# Altium integrated library maxim.IntLib: 502 symbols (part 4 of 4)
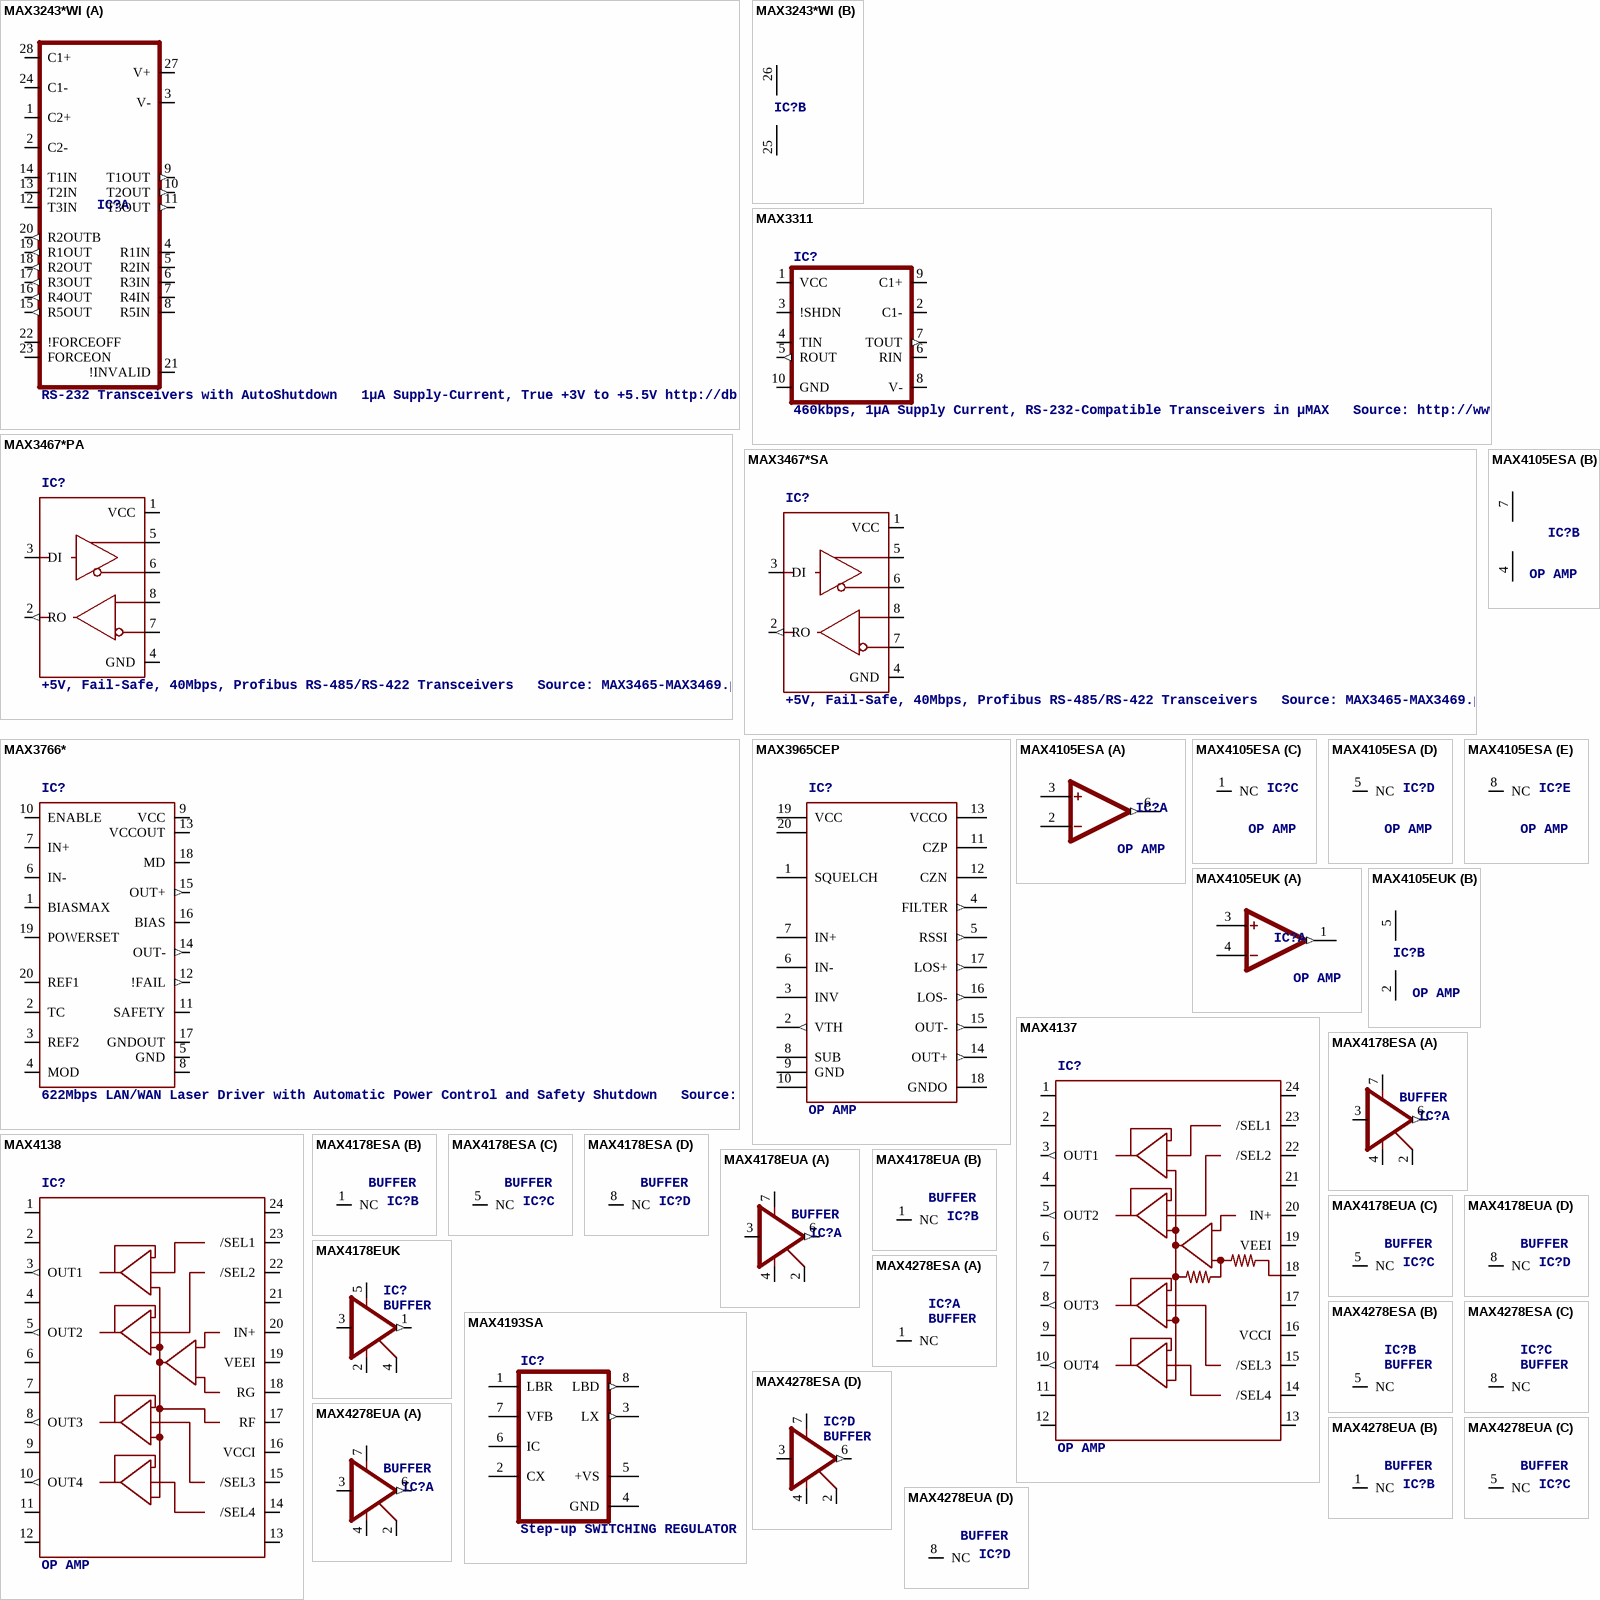
[diagram p33: symbols MAX3243*WI to MAX4278EUA]

## MAX4137
designator IC?, comment OP AMP
OC_FARNELL: unknown; OC_NEWARK: unknown
footprint SO24L
pins: 1 NC1, 2 VCCO@1 (power), 3 OUT1 (out), 4 GND@1 (power), 5 OUT2 (out), 6 VEEO@1 (power), 7 VEEO@2 (power), 8 OUT3 (out), 9 GND@2 (power), 10 OUT4 (out), 11 VCCO@2 (power), 12 NC12, 13 NC13, 14 /SEL4, 15 /SEL3, 16 VCCI (power), 17 NC17, 18 AGND@3 (power), 19 VEEI (power), 20 IN+, 21 AGND@4 (power), 22 /SEL2, 23 /SEL1, 24 NC24

## MAX4138
designator IC?, comment OP AMP
OC_FARNELL: unknown; OC_NEWARK: unknown
footprint SO24L
pins: 1 NC1, 2 VCCO@1 (power), 3 OUT1 (out), 4 AGND@1 (power), 5 OUT2 (out), 6 VEEO@1 (power), 7 VEEO@2 (power), 8 OUT3 (out), 9 AGND@2 (power), 10 OUT4 (out), 11 VCCO@2 (power), 12 NC12, 13 NC13, 14 /SEL4, 15 /SEL3, 16 VCCI (power), 17 RF, 18 RG, 19 VEEI (power), 20 IN+, 21 AGND@4 (power), 22 /SEL2, 23 /SEL1, 24 NC24

## MAX4178ESA
designator IC?, comment BUFFER
OC_FARNELL: unknown; OC_NEWARK: unknown
footprint SO08
part A pins: 2 GND (power), 3 IN, 4 VEE (power), 6 OUT (out), 7 VCC (power)
part B pins: 1 NC
part C pins: 5 NC
part D pins: 8 NC

## MAX4178EUA
designator IC?, comment BUFFER
OC_FARNELL: unknown; OC_NEWARK: unknown
footprint UMAX8
part A pins: 2 GND (power), 3 IN, 4 VEE (power), 6 OUT (out), 7 VCC (power)
part B pins: 1 NC
part C pins: 5 NC
part D pins: 8 NC

## MAX4178EUK
designator IC?, comment BUFFER
OC_FARNELL: unknown; OC_NEWARK: unknown
footprint SOT23-5L
pins: 1 OUT (out), 2 VEE (power), 3 IN, 4 GND (power), 5 VCC (power)

## MAX4193SA
designator IC?, comment Step-up SWITCHING REGULATOR
OC_FARNELL: unknown; OC_NEWARK: unknown
footprint SO08
pins: 1 LBR, 2 CX, 3 LX (out), 4 GND (power), 5 +VS (power), 6 IC, 7 VFB, 8 LBD (out)

## MAX4278ESA
designator IC?, comment BUFFER
OC_FARNELL: 1422322; OC_NEWARK: unknown
footprint SO08
part A pins: 1 NC
part B pins: 5 NC
part C pins: 8 NC
part D pins: 2 GND (power), 3 IN, 4 VEE (power), 6 OUT (out), 7 VCC (power)

## MAX4278EUA
designator IC?, comment BUFFER
OC_FARNELL: unknown; OC_NEWARK: unknown
footprint UMAX8
part A pins: 2 GND (power), 3 IN, 4 VEE (power), 6 OUT (out), 7 VCC (power)
part B pins: 1 NC
part C pins: 5 NC
part D pins: 8 NC

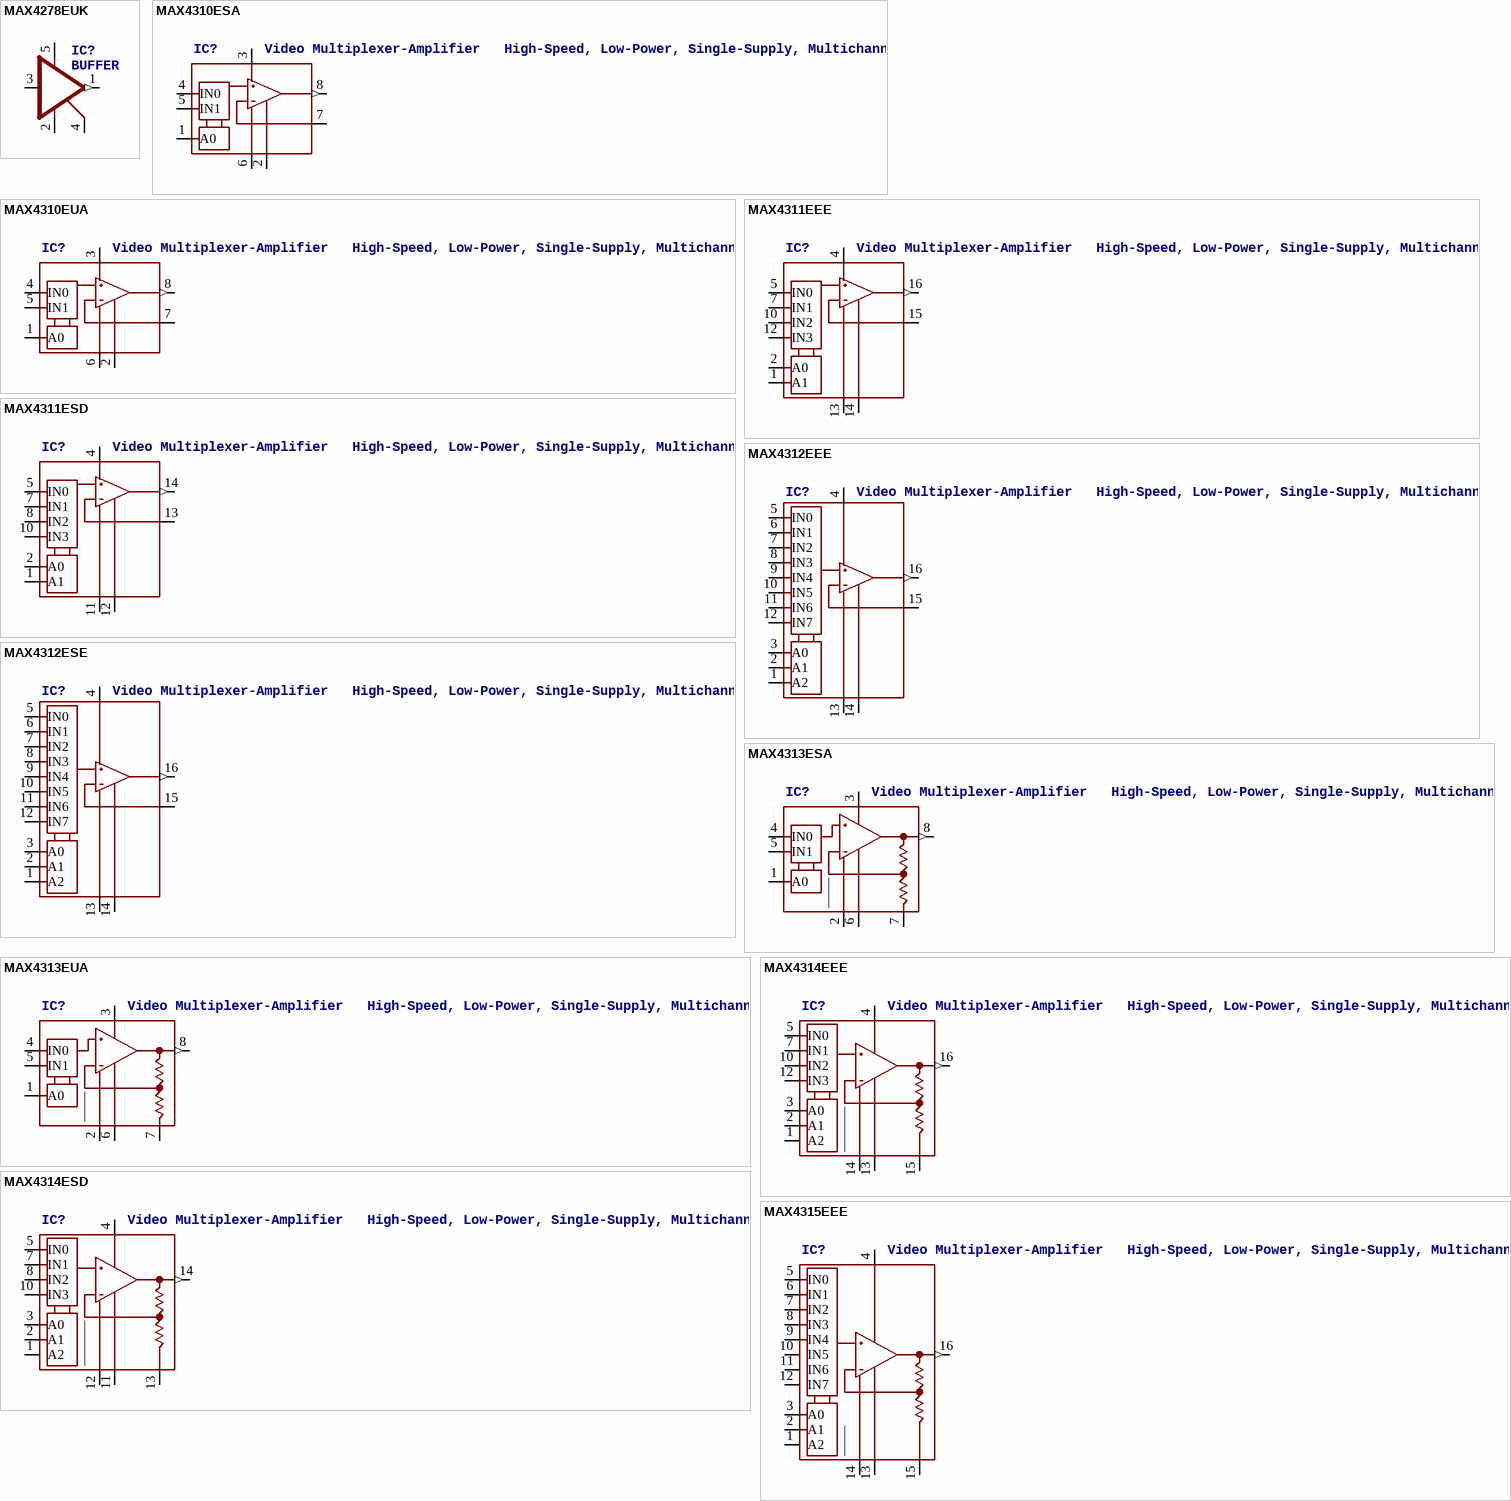
[diagram p26: symbols MAX4278EUK to MAX4315EEE]

## MAX4278EUK
designator IC?, comment BUFFER
OC_FARNELL: unknown; OC_NEWARK: unknown
footprint SOT23-5L
pins: 1 OUT (out), 2 VEE (power), 3 IN, 4 GND (power), 5 VCC (power)

## MAX4310ESA
designator IC?, comment Video Multiplexer-Amplifier   High-Speed, Low-Power, Single-Supply, Multichannel
OC_FARNELL: unknown; OC_NEWARK: unknown
footprint UMAX8
pins: 1 A0, 2 !SHDN, 3 V+ (power), 4 IN0, 5 IN1, 6 V- (power), 7 FB (power), 8 OUT (out)

## MAX4310EUA
designator IC?, comment Video Multiplexer-Amplifier   High-Speed, Low-Power, Single-Supply, Multichannel
OC_FARNELL: unknown; OC_NEWARK: unknown
footprint SO08
pins: 1 A0, 2 !SHDN, 3 V+ (power), 4 IN0, 5 IN1, 6 V- (power), 7 FB (power), 8 OUT (out)

## MAX4311EEE
designator IC?, comment Video Multiplexer-Amplifier   High-Speed, Low-Power, Single-Supply, Multichannel
MPN: MAX4311EEE+; MF: MAXIM; OC_FARNELL: unknown; OC_NEWARK: 65J5493
footprint QSOP16
pins: 1 A1, 2 A0, 4 V+ (power), 5 IN0, 7 IN1, 10 IN2, 12 IN3, 13 V- (power), 14 !SHDN, 15 FB (power), 16 OUT (out)

## MAX4311ESD
designator IC?, comment Video Multiplexer-Amplifier   High-Speed, Low-Power, Single-Supply, Multichannel
MPN: MAX4311ESD+; MF: MAXIM; OC_FARNELL: unknown; OC_NEWARK: 37K7965
footprint SO14
pins: 1 A1, 2 A0, 4 V+ (power), 5 IN0, 7 IN1, 8 IN2, 10 IN3, 11 V- (power), 12 !SHDN, 13 FB (power), 14 OUT (out)

## MAX4312EEE
designator IC?, comment Video Multiplexer-Amplifier   High-Speed, Low-Power, Single-Supply, Multichannel
MPN: MAX4312EEE+; MF: MAXIM; OC_FARNELL: unknown; OC_NEWARK: 33K2071
footprint QSOP16
pins: 1 A2, 2 A1, 3 A0, 4 V+ (power), 5 IN0, 6 IN1, 7 IN2, 8 IN3, 9 IN4, 10 IN5, 11 IN6, 12 IN7, 13 V- (power), 14 !SHDN, 15 FB (power), 16 OUT (out)

## MAX4312ESE
designator IC?, comment Video Multiplexer-Amplifier   High-Speed, Low-Power, Single-Supply, Multichannel
MPN: MAX4312ESE+; OC_FARNELL: unknown; OC_NEWARK: 53K6837
footprint SO16
pins: 1 A2, 2 A1, 3 A0, 4 V+ (power), 5 IN0, 6 IN1, 7 IN2, 8 IN3, 9 IN4, 10 IN5, 11 IN6, 12 IN7, 13 V- (power), 14 !SHDN, 15 FB (power), 16 OUT (out)

## MAX4313ESA
designator IC?, comment Video Multiplexer-Amplifier   High-Speed, Low-Power, Single-Supply, Multichannel
MPN: MAX4313ESA+; MF: MAXIM; OC_FARNELL: unknown; OC_NEWARK: 59J3144
footprint SO08
pins: 1 A0, 2 !SHDN, 3 V+ (power), 4 IN0, 5 IN1, 6 V- (power), 7 GND (power), 8 OUT (out)

## MAX4313EUA
designator IC?, comment Video Multiplexer-Amplifier   High-Speed, Low-Power, Single-Supply, Multichannel
OC_FARNELL: unknown; OC_NEWARK: unknown
footprint UMAX8
pins: 1 A0, 2 !SHDN, 3 V+ (power), 4 IN0, 5 IN1, 6 V- (power), 7 GND (power), 8 OUT (out)

## MAX4314EEE
designator IC?, comment Video Multiplexer-Amplifier   High-Speed, Low-Power, Single-Supply, Multichannel
MPN: MAX4314EEE+; OC_FARNELL: unknown; OC_NEWARK: 57K8865
footprint QSOP16
pins: 1 A2, 2 A1, 3 A0, 4 V+ (power), 5 IN0, 7 IN1, 10 IN2, 12 IN3, 13 V- (power), 14 !SHDN, 15 GND (power), 16 OUT (out)

## MAX4314ESD
designator IC?, comment Video Multiplexer-Amplifier   High-Speed, Low-Power, Single-Supply, Multichannel
MPN: MAX4314ESD+; MF: MAXIM; OC_FARNELL: unknown; OC_NEWARK: 61K0443
footprint SO14
pins: 1 A2, 2 A1, 3 A0, 4 V+ (power), 5 IN0, 7 IN1, 8 IN2, 10 IN3, 11 V- (power), 12 !SHDN, 13 GND (power), 14 OUT (out)

## MAX4315EEE
designator IC?, comment Video Multiplexer-Amplifier   High-Speed, Low-Power, Single-Supply, Multichannel
MPN: MAX4315EEE+; OC_FARNELL: unknown; OC_NEWARK: 61K0445
footprint QSOP16
pins: 1 A2, 2 A1, 3 A0, 4 V+ (power), 5 IN0, 6 IN1, 7 IN2, 8 IN3, 9 IN4, 10 IN5, 11 IN6, 12 IN7, 13 V- (power), 14 !SHDN, 15 GND (power), 16 OUT (out)

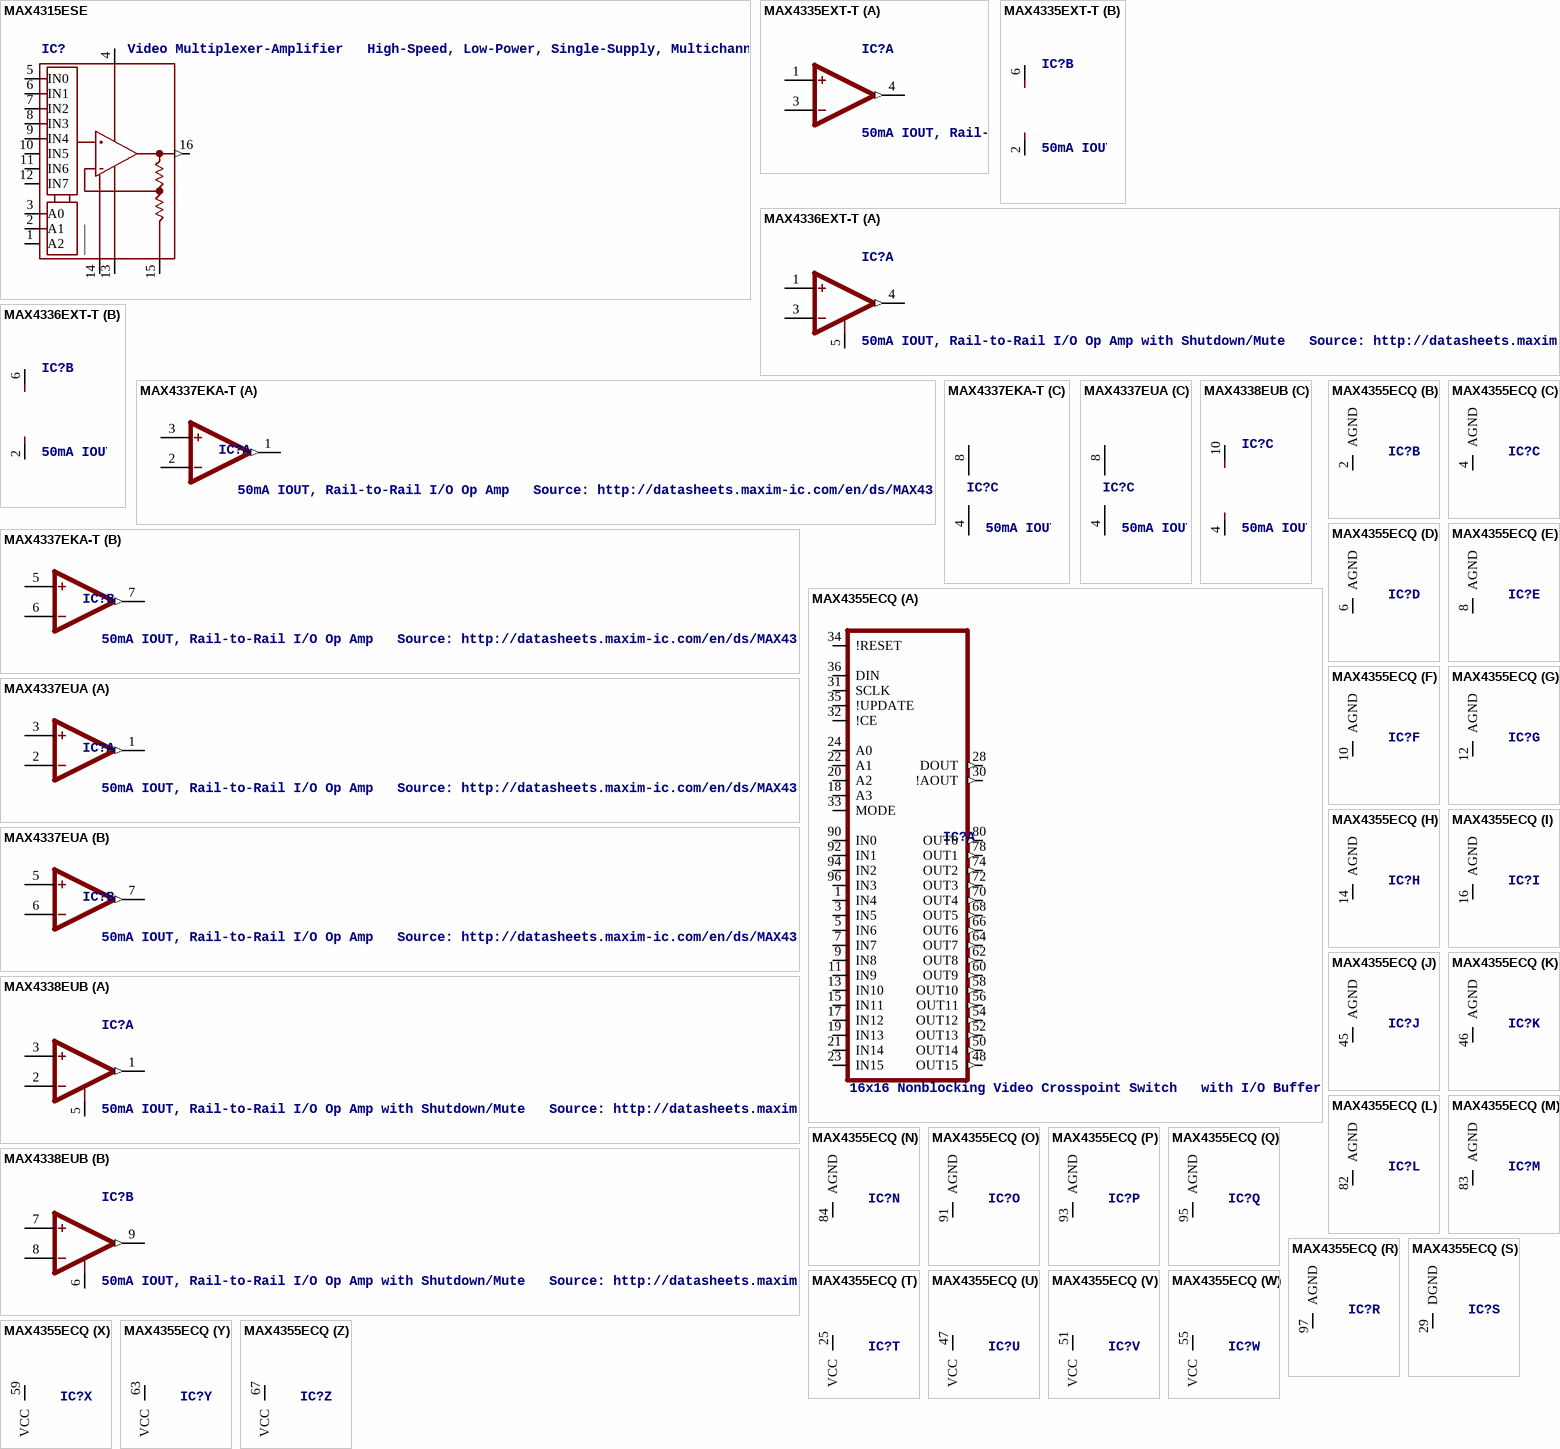
[diagram p27: symbols MAX4315ESE to MAX4355ECQ]

## MAX4315ESE
designator IC?, comment Video Multiplexer-Amplifier   High-Speed, Low-Power, Single-Supply, Multichannel
MPN: MAX4315ESE+; MF: MAXIM; OC_FARNELL: unknown; OC_NEWARK: 37K7967
footprint SO16
pins: 1 A2, 2 A1, 3 A0, 4 V+ (power), 5 IN0, 6 IN1, 7 IN2, 8 IN3, 9 IN4, 10 IN5, 11 IN6, 12 IN7, 13 V- (power), 14 !SHDN, 15 GND (power), 16 OUT (out)

## MAX4335EXT-T
designator IC?, comment 50mA IOUT, Rail-to-Rail I/O Op Amp   Source: http://datasheets.maxim-ic.com/en/ds/MAX4335-MAX4338.pdf
OC_FARNELL: unknown; OC_NEWARK: unknown
footprint SOT23-6L
part A pins: 1 +IN, 3 -IN, 4 OUT (out)
part B pins: 2 V- (power), 6 V+ (power)

## MAX4336EXT-T
designator IC?, comment 50mA IOUT, Rail-to-Rail I/O Op Amp with Shutdown/Mute   Source: http://datasheets.maxim-ic.com/en/ds/MAX4335-MAX4338.pdf
MPN: MAX4336EXT+T; OC_FARNELL: unknown; OC_NEWARK: 27M4090
footprint SOT23-6L
part A pins: 1 +IN, 3 -IN, 4 OUT (out), 5 SHUTDOWN
part B pins: 2 V- (power), 6 V+ (power)

## MAX4337EKA-T
designator IC?, comment 50mA IOUT, Rail-to-Rail I/O Op Amp   Source: http://datasheets.maxim-ic.com/en/ds/MAX4335-MAX4338.pdf
MPN: MAX4337EKA+T; OC_FARNELL: unknown; OC_NEWARK: 57K8868
footprint SOT23-8L
part A pins: 1 OUT (out), 2 -IN, 3 +IN
part B pins: 5 +IN, 6 -IN, 7 OUT (out)
part C pins: 4 V- (power), 8 V+ (power)

## MAX4337EUA
designator IC?, comment 50mA IOUT, Rail-to-Rail I/O Op Amp   Source: http://datasheets.maxim-ic.com/en/ds/MAX4335-MAX4338.pdf
OC_FARNELL: unknown; OC_NEWARK: unknown
footprint UMAX8
part A pins: 1 OUT (out), 2 -IN, 3 +IN
part B pins: 5 +IN, 6 -IN, 7 OUT (out)
part C pins: 4 V- (power), 8 V+ (power)

## MAX4338EUB
designator IC?, comment 50mA IOUT, Rail-to-Rail I/O Op Amp with Shutdown/Mute   Source: http://datasheets.maxim-ic.com/en/ds/MAX4335-MAX4338.pdf
OC_FARNELL: unknown; OC_NEWARK: unknown
footprint UMAX10
part A pins: 1 OUT (out), 2 -IN, 3 +IN, 5 SHUTDOWN
part B pins: 6 SHUTDOWN, 7 +IN, 8 -IN, 9 OUT (out)
part C pins: 4 V- (power), 10 V+ (power)

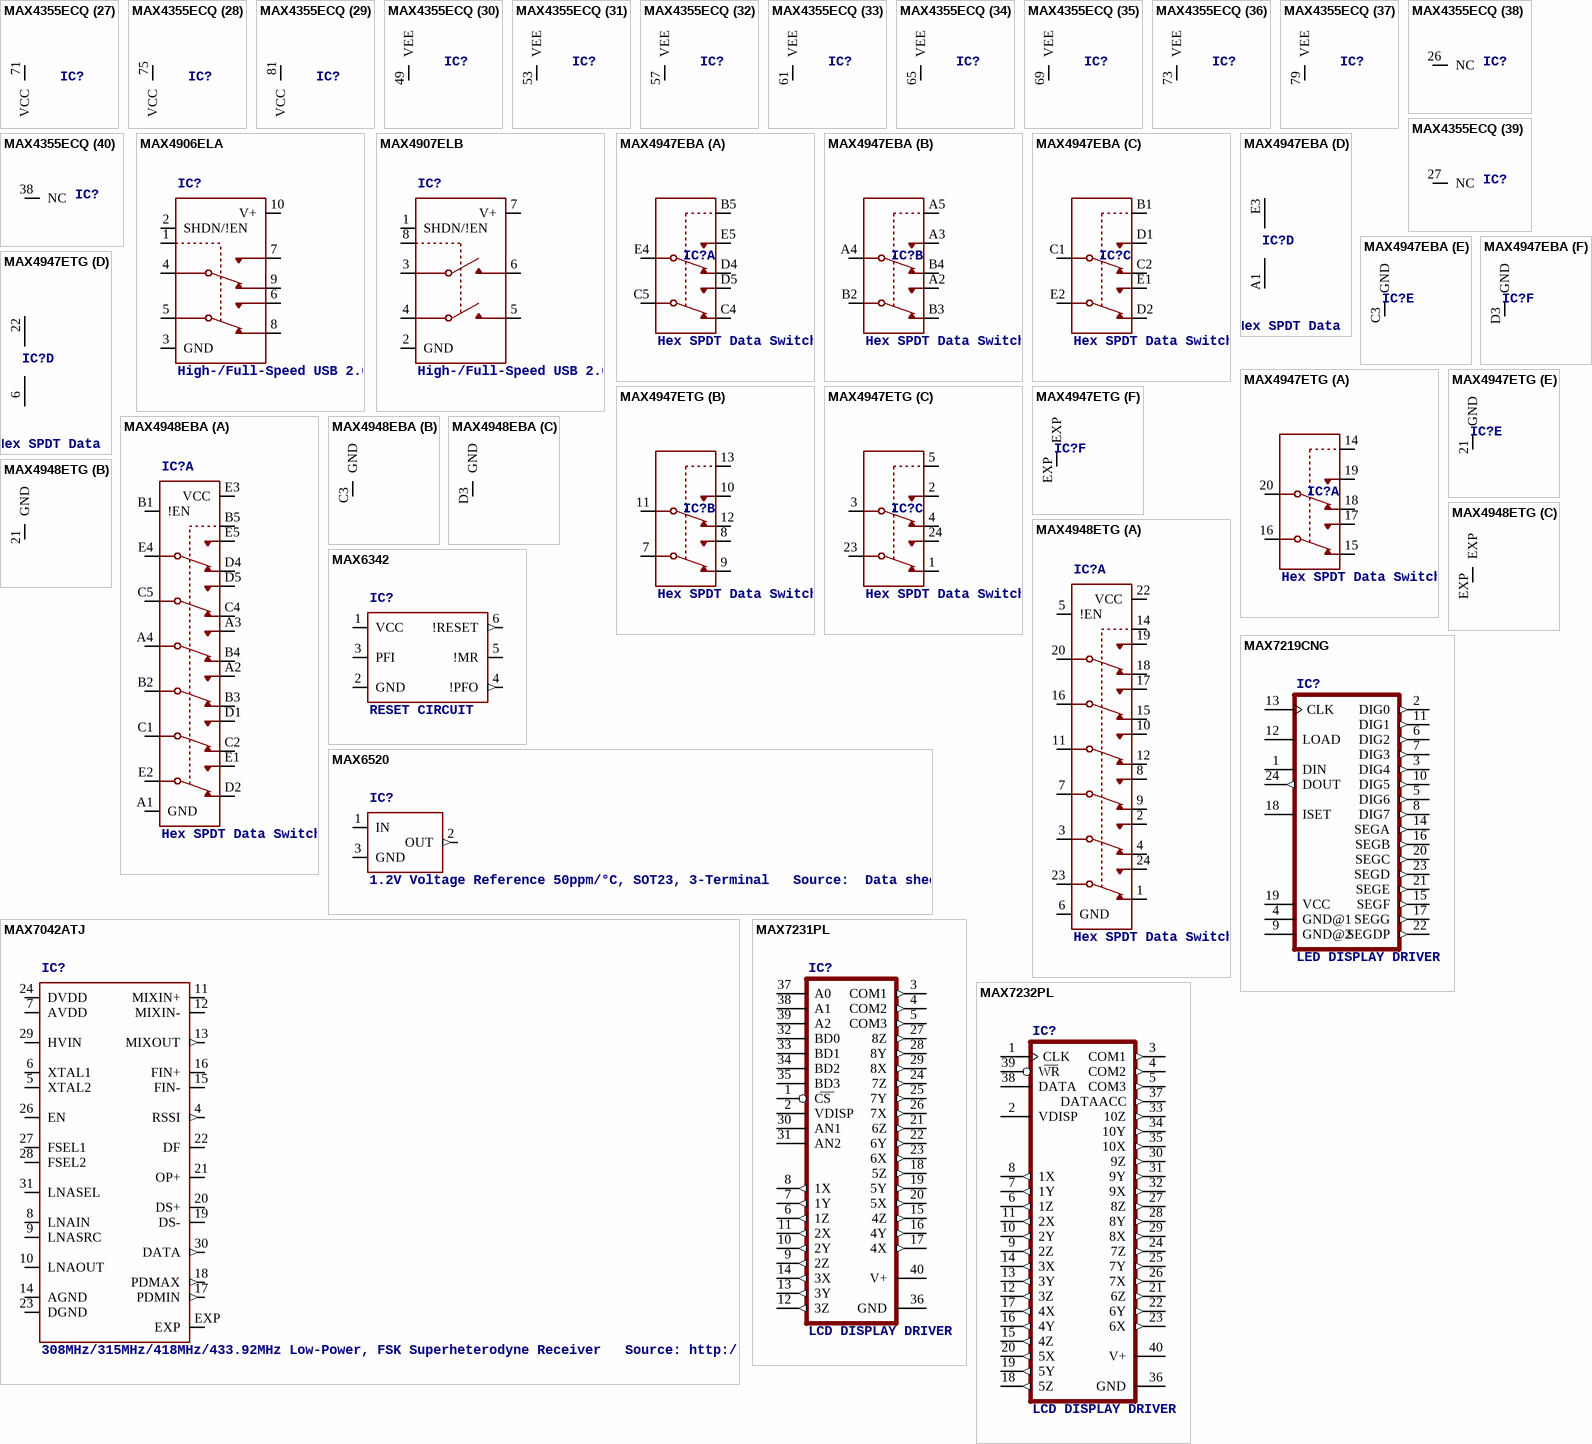
[diagram p28: symbols MAX4355ECQ to MAX7232PL]

## MAX4355ECQ
designator IC?, comment 16x16 Nonblocking Video Crosspoint Switch   with I/O Buffers
OC_FARNELL: unknown; OC_NEWARK: unknown
footprint TQFP100
part A pins: 1 IN4, 3 IN5, 5 IN6, 7 IN7, 9 IN8, 11 IN9, 13 IN10, 15 IN11, 17 IN12, 18 A3, 19 IN13, 20 A2, 21 IN14, 22 A1, 23 IN15, 24 A0, 28 DOUT (out), 30 !AOUT (out), 31 SCLK, 32 !CE, 33 MODE, 34 !RESET, 35 !UPDATE, 36 DIN, 48 OUT15 (out), 50 OUT14 (out), 52 OUT13 (out), 54 OUT12 (out), 56 OUT11 (out), 58 OUT10 (out), 60 OUT9 (out), 62 OUT8 (out), 64 OUT7 (out), 66 OUT6 (out), 68 OUT5 (out), 70 OUT4 (out), 72 OUT3 (out), 74 OUT2 (out), 78 OUT1 (out), 80 OUT0 (out), 90 IN0, 92 IN1, 94 IN2, 96 IN3
part B pins: 2 AGND (power)
part C pins: 4 AGND (power)
part D pins: 6 AGND (power)
part E pins: 8 AGND (power)
part F pins: 10 AGND (power)
part G pins: 12 AGND (power)
part H pins: 14 AGND (power)
part I pins: 16 AGND (power)
part J pins: 45 AGND (power)
part K pins: 46 AGND (power)
part L pins: 82 AGND (power)
part M pins: 83 AGND (power)
part N pins: 84 AGND (power)
part O pins: 91 AGND (power)
part P pins: 93 AGND (power)
part Q pins: 95 AGND (power)
part R pins: 97 AGND (power)
part S pins: 29 DGND (power)
part T pins: 25 VCC (power)
part U pins: 47 VCC (power)
part V pins: 51 VCC (power)
part W pins: 55 VCC (power)
part X pins: 59 VCC (power)
part Y pins: 63 VCC (power)
part Z pins: 67 VCC (power)
part 27 pins: 71 VCC (power)
part 28 pins: 75 VCC (power)
part 29 pins: 81 VCC (power)
part 30 pins: 49 VEE (power)
part 31 pins: 53 VEE (power)
part 32 pins: 57 VEE (power)
part 33 pins: 61 VEE (power)
part 34 pins: 65 VEE (power)
part 35 pins: 69 VEE (power)
part 36 pins: 73 VEE (power)
part 37 pins: 79 VEE (power)
part 38 pins: 26 NC
part 39 pins: 27 NC
part 40 pins: 38 NC
part 41 pins: 39 NC
part 42 pins: 40 NC
part 43 pins: 41 NC
part 44 pins: 42 NC
part 45 pins: 43 NC
part 46 pins: 44 NC
part 47 pins: 76 NC
part 48 pins: 77 NC
part 49 pins: 85 NC
part 50 pins: 86 NC
part 51 pins: 87 NC
part 52 pins: 88 NC
part 53 pins: 89 NC
part 54 pins: 99 NC
part 55 pins: 100 NC
part 56 pins: 98 VEE (power)
part 57 pins: 37 VDD (power)

## MAX4906ELA
designator IC?, comment High-/Full-Speed USB 2.0 Switches   Source: http://datasheets.maxim-ic.com/en/ds/MAX4906-MAX4907F.pdf
OC_FARNELL: unknown; OC_NEWARK: unknown
footprint UDFN10
pins: 1 IN, 2 SHDN/!EN, 3 GND (power), 4 COM1, 5 COM2, 6 NO2, 7 NO1, 8 NC2, 9 NC1, 10 V+

## MAX4907ELB
designator IC?, comment High-/Full-Speed USB 2.0 Switches   Source: http://datasheets.maxim-ic.com/en/ds/MAX4906-MAX4907F.pdf
OC_FARNELL: unknown; OC_NEWARK: unknown
footprint UDFN8
pins: 1 SHDN/!EN, 2 GND (power), 3 COM1, 4 COM2, 5 NO2, 6 NO1, 7 V+, 8 IN

## MAX4947EBA
designator IC?, comment Hex SPDT Data Switch   Source: http://datasheets.maxim-ic.com/en/ds/MAX4947-MAX4948.pdf
MPN: MAX4947EBA+T; OC_FARNELL: unknown; OC_NEWARK: 19M9695
footprint UCSP25
part A pins: B5 CB, C4 NC2, C5 COM2, D4 NC1, D5 NO2, E4 COM1, E5 NO1
part B pins: A2 NO2, A3 NO1, A4 COM1, A5 CB, B2 COM2, B3 NC2, B4 NC1
part C pins: B1 CB, C1 COM1, C2 NC1, D1 NO1, D2 NC2, E1 NO2, E2 COM2
part D pins: A1 GND (power), E3 VCC (power)
part E pins: C3 GND (power)
part F pins: D3 GND (power)

## MAX4947ETG
designator IC?, comment Hex SPDT Data Switch   Source: http://datasheets.maxim-ic.com/en/ds/MAX4947-MAX4948.pdf
MPN: MAX4947ETG+; OC_FARNELL: unknown; OC_NEWARK: 19M9696
footprint TQFN24-EP
part A pins: 14 CB, 15 NC2, 16 COM2, 17 NO2, 18 NC1, 19 NO1, 20 COM1
part B pins: 7 COM2, 8 NO2, 9 NC2, 10 NO1, 11 COM1, 12 NC1, 13 CB
part C pins: 1 NC2, 2 NO1, 3 COM1, 4 NC1, 5 CB, 23 COM2, 24 NO2
part D pins: 6 GND (power), 22 VCC (power)
part E pins: 21 GND (power)
part F pins: EXP

## MAX4948EBA
designator IC?, comment Hex SPDT Data Switch   Source: http://datasheets.maxim-ic.com/en/ds/MAX4947-MAX4948.pdf
MPN: MAX4948EBA+T; OC_FARNELL: unknown; OC_NEWARK: 42M5623
footprint UCSP25
part A pins: A1 GND (power), A2 NO4, A3 NO3, A4 COM3, B1 !EN, B2 COM4, B3 NC4, B4 NC3, B5 CB, C1 COM5, C2 NC5, C4 NC2, C5 COM2, D1 NO5, D2 NC6, D4 NC1, D5 NO2, E1 NO6, E2 COM6, E3 VCC (power), E4 COM1, E5 NO1
part B pins: C3 GND (power)
part C pins: D3 GND (power)

## MAX4948ETG
designator IC?, comment Hex SPDT Data Switch   Source: http://datasheets.maxim-ic.com/en/ds/MAX4947-MAX4948.pdf
MPN: MAX4948ETG+; OC_FARNELL: unknown; OC_NEWARK: 42M5624
footprint TQFN24-EP
part A pins: 1 NC6, 2 NO5, 3 COM5, 4 NC5, 5 !EN, 6 GND (power), 7 COM4, 8 NO4, 9 NC4, 10 NO3, 11 COM3, 12 NC3, 14 CB, 15 NC2, 16 COM2, 17 NO2, 18 NC1, 19 NO1, 20 COM1, 22 VCC (power), 23 COM6, 24 NO6
part B pins: 21 GND (power)
part C pins: EXP

## MAX6342
designator IC?, comment RESET CIRCUIT
OC_FARNELL: unknown; OC_NEWARK: unknown
footprint SOT23-6L
pins: 1 VCC (power), 2 GND (power), 3 PFI, 4 !PFO (out), 5 !MR, 6 !RESET (out)

## MAX6520
designator IC?, comment 1.2V Voltage Reference 50ppm/°C, SOT23, 3-Terminal   Source:  Data sheet
MPN: MAX6520EUR-T; MF: MAXIM; OC_FARNELL: unknown; OC_NEWARK: 02J4586
footprint SOT23
pins: 1 IN, 2 OUT (out), 3 GND (power)

## MAX7042ATJ
designator IC?, comment 308MHz/315MHz/418MHz/433.92MHz Low-Power, FSK Superheterodyne Receiver   Source: http://datasheets.maxim-ic.com/en/ds/MAX7042.pdf
MPN: MAX7042ATJ+; MF: MAXIM; OC_FARNELL: unknown; OC_NEWARK: 43K3864
footprint QFN32
pins: 4 RSSI (out), 5 XTAL2, 6 XTAL1, 7 AVDD (power), 8 LNAIN, 9 LNASRC, 10 LNAOUT, 11 MIXIN+, 12 MIXIN-, 13 MIXOUT (out), 14 AGND (power), 15 FIN-, 16 FIN+, 17 PDMIN (out), 18 PDMAX (out), 19 DS-, 20 DS+, 21 OP+, 22 DF, 23 DGND (power), 24 DVDD (power), 26 EN, 27 FSEL1, 28 FSEL2, 29 HVIN, 30 DATA (out), 31 LNASEL, EXP

## MAX7219CNG
designator IC?, comment LED DISPLAY DRIVER
MPN: MAX7219CNG; MF: MAXIM; OC_FARNELL: 1523914; OC_NEWARK: 34C4018
footprint DIL24-3
pins: 1 DIN, 2 DIG0 (out), 3 DIG4 (out), 4 GND@1 (power), 5 DIG6 (out), 6 DIG2 (out), 7 DIG3 (out), 8 DIG7 (out), 9 GND@2 (power), 10 DIG5 (out), 11 DIG1 (out), 12 LOAD, 13 CLK, 14 SEGA (out), 15 SEGF (out), 16 SEGB (out), 17 SEGG (out), 18 ISET, 19 VCC (power), 20 SEGC (out), 21 SEGE (out), 22 SEGDP (out), 23 SEGD (out), 24 DOUT (out)

## MAX7231PL
designator IC?, comment LCD DISPLAY DRIVER
OC_FARNELL: unknown; OC_NEWARK: unknown
footprint DIL40
pins: 1 CS, 2 VDISP, 3 COM1 (out), 4 COM2 (out), 5 COM3 (out), 6 1Z (out), 7 1Y (out), 8 1X (out), 9 2Z (out), 10 2Y (out), 11 2X (out), 12 3Z (out), 13 3Y (out), 14 3X (out), 15 4Z (out), 16 4Y (out), 17 4X (out), 18 5Z (out), 19 5Y (out), 20 5X (out), 21 6Z (out), 22 6Y (out), 23 6X (out), 24 7Z (out), 25 7Y (out), 26 7X (out), 27 8Z (out), 28 8Y (out), 29 8X (out), 30 AN1, 31 AN2, 32 BD0, 33 BD1, 34 BD2, 35 BD3, 36 GND (power), 37 A0, 38 A1, 39 A2, 40 V+ (power)

## MAX7232PL
designator IC?, comment LCD DISPLAY DRIVER
OC_FARNELL: unknown; OC_NEWARK: unknown
footprint DIL40
pins: 1 CLK, 2 VDISP, 3 COM1 (out), 4 COM2 (out), 5 COM3 (out), 6 1Z (out), 7 1Y (out), 8 1X (out), 9 2Z (out), 10 2Y (out), 11 2X (out), 12 3Z (out), 13 3Y (out), 14 3X (out), 15 4Z (out), 16 4Y (out), 17 4X (out), 18 5Z (out), 19 5Y (out), 20 5X (out), 21 6Z (out), 22 6Y (out), 23 6X (out), 24 7Z (out), 25 7Y (out), 26 7X (out), 27 8Z (out), 28 8Y (out), 29 8X (out), 30 9Z (out), 31 9Y (out), 32 9X (out), 33 10Z (out), 34 10Y (out), 35 10X (out), 36 GND (power), 37 DATAACC (out), 38 DATA, 39 WR, 40 V+ (power)

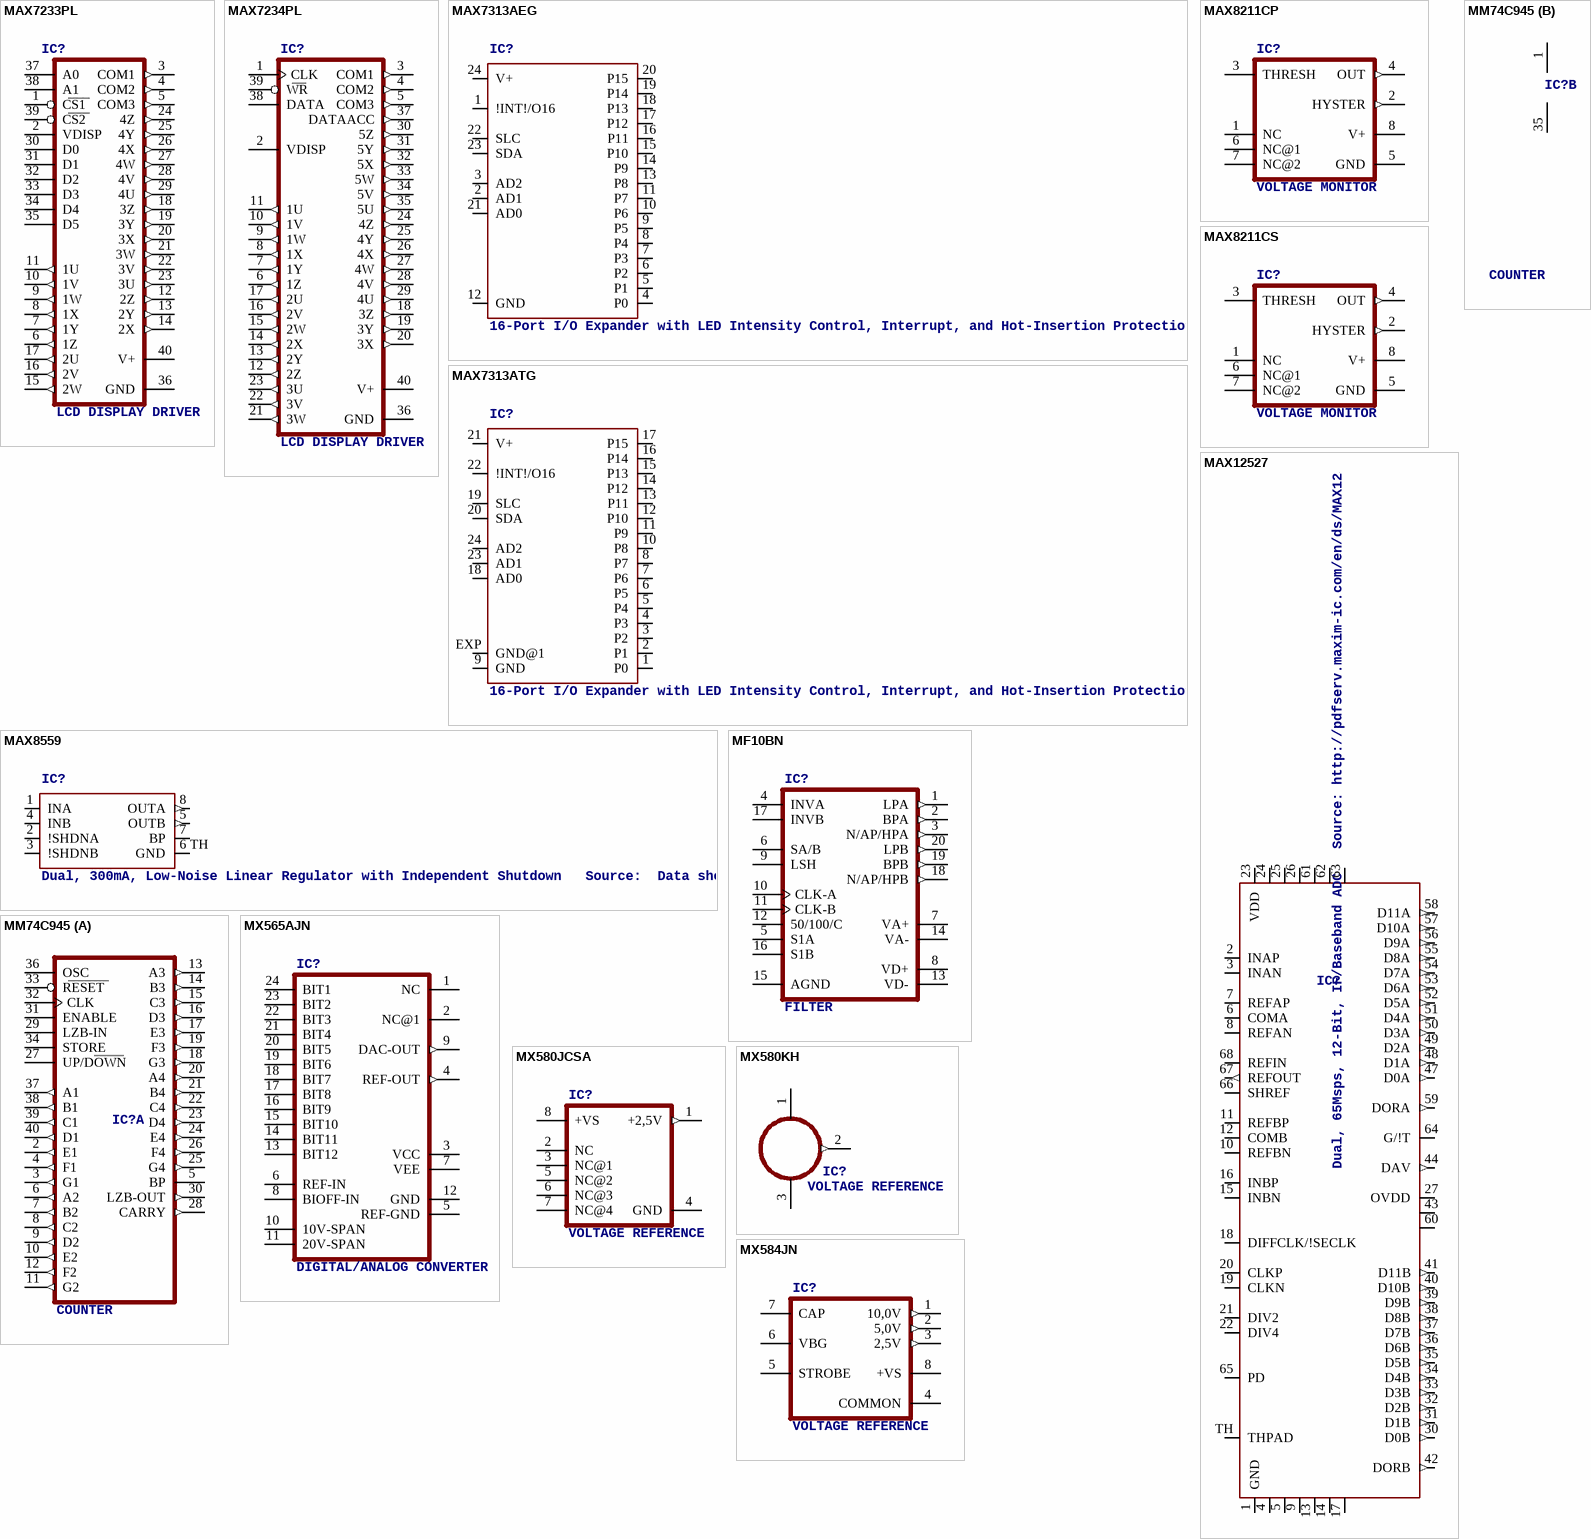
[diagram p29: symbols MAX7233PL to MX584JN]

## MAX7233PL
designator IC?, comment LCD DISPLAY DRIVER
OC_FARNELL: unknown; OC_NEWARK: unknown
footprint DIL40
pins: 1 CS1, 2 VDISP, 3 COM1 (out), 4 COM2 (out), 5 COM3 (out), 6 1Z (out), 7 1Y (out), 8 1X (out), 9 1W (out), 10 1V (out), 11 1U (out), 12 2Z (out), 13 2Y (out), 14 2X (out), 15 2W (out), 16 2V (out), 17 2U (out), 18 3Z (out), 19 3Y (out), 20 3X (out), 21 3W (out), 22 3V (out), 23 3U (out), 24 4Z (out), 25 4Y (out), 26 4X (out), 27 4W (out), 28 4V (out), 29 4U (out), 30 D0, 31 D1, 32 D2, 33 D3, 34 D4, 35 D5, 36 GND (power), 37 A0, 38 A1, 39 CS2, 40 V+ (power)

## MAX7234PL
designator IC?, comment LCD DISPLAY DRIVER
OC_FARNELL: unknown; OC_NEWARK: unknown
footprint DIL40
pins: 1 CLK, 2 VDISP, 3 COM1 (out), 4 COM2 (out), 5 COM3 (out), 6 1Z (out), 7 1Y (out), 8 1X (out), 9 1W (out), 10 1V (out), 11 1U (out), 12 2Z (out), 13 2Y (out), 14 2X (out), 15 2W (out), 16 2V (out), 17 2U (out), 18 3Z (out), 19 3Y (out), 20 3X (out), 21 3W (out), 22 3V (out), 23 3U (out), 24 4Z (out), 25 4Y (out), 26 4X (out), 27 4W (out), 28 4V (out), 29 4U (out), 30 5Z (out), 31 5Y (out), 32 5X (out), 33 5W (out), 34 5V (out), 35 5U (out), 36 GND (power), 37 DATAACC (out), 38 DATA, 39 WR, 40 V+ (power)

## MAX7313AEG
designator IC?, comment 16-Port I/O Expander with LED Intensity Control, Interrupt, and Hot-Insertion ProtectionSource: http://datasheets.maxim-ic.com/en/ds/MAX7313.pdf
MPN: MAX7313AEG+; OC_FARNELL: unknown; OC_NEWARK: 53K7268
footprint QSOP24
pins: 1 !INT!/O16 (oc), 2 AD1, 3 AD2, 4 P0, 5 P1, 6 P2, 7 P3, 8 P4, 9 P5, 10 P6, 11 P7, 12 GND (power), 13 P8, 14 P9, 15 P10, 16 P11, 17 P12, 18 P13, 19 P14, 20 P15, 21 AD0, 22 SLC, 23 SDA, 24 V+ (power)

## MAX7313ATG
designator IC?, comment 16-Port I/O Expander with LED Intensity Control, Interrupt, and Hot-Insertion ProtectionSource: http://datasheets.maxim-ic.com/en/ds/MAX7313.pdf
MPN: MAX7313ATG; MF: MAXIM; OC_FARNELL: unknown; OC_NEWARK: 87H1899
footprint TQFN24-EP
pins: 1 P0, 2 P1, 3 P2, 4 P3, 5 P4, 6 P5, 7 P6, 8 P7, 9 GND (power), 10 P8, 11 P9, 12 P10, 13 P11, 14 P12, 15 P13, 16 P14, 17 P15, 18 AD0, 19 SLC, 20 SDA, 21 V+ (power), 22 !INT!/O16 (oc), 23 AD1, 24 AD2, EXP GND@1 (power)

## MAX8211CP
designator IC?, comment VOLTAGE MONITOR
MPN: MAX8211CPA+; MF: MAXIM; OC_FARNELL: 1187924; OC_NEWARK: 68K5030
footprint DIL08
pins: 1 NC, 2 HYSTER (out), 3 THRESH, 4 OUT (out), 5 GND (power), 6 NC@1, 7 NC@2, 8 V+ (power)

## MAX8211CS
designator IC?, comment VOLTAGE MONITOR
MPN: MAX8211CSA+; MF: MAXIM; OC_FARNELL: 9725911; OC_NEWARK: 68K5031
footprint SO08
pins: 1 NC, 2 HYSTER (out), 3 THRESH, 4 OUT (out), 5 GND (power), 6 NC@1, 7 NC@2, 8 V+ (power)

## MAX8559
designator IC?, comment Dual, 300mA, Low-Noise Linear Regulator with Independent Shutdown   Source:  Data sheet
footprint TDFN8-3X3MM
pins: 1 INA, 2 !SHDNA, 3 !SHDNB, 4 INB, 5 OUTB (out), 6 TH GND (power), 7 BP, 8 OUTA (out)

## MAX12527
designator IC?, comment Dual, 65Msps, 12-Bit, IF/Baseband ADC   Source: http://pdfserv.maxim-ic.com/en/ds/MAX12527.pdf
OC_FARNELL: unknown; OC_NEWARK: unknown
footprint 68LQFN
pins: 1 GND (power), 2 INAP, 3 INAN, 4 GND@1 (power), 5 GND@2 (power), 6 COMA, 7 REFAP, 8 REFAN, 9 GND@3 (power), 10 REFBN, 11 REFBP, 12 COMB, 13 GND@4 (power), 14 GND@5 (power), 15 INBN, 16 INBP, 17 GND@6 (power), 18 DIFFCLK/!SECLK, 19 CLKN, 20 CLKP, 21 DIV2, 22 DIV4, 23 VDD (power), 24 VDD@1 (power), 25 VDD@2 (power), 26 VDD@3 (power), 27 OVDD (power), 30 D0B (out), 31 D1B (out), 32 D2B (out), 33 D3B (out), 34 D4B (out), 35 D5B (out), 36 D6B (out), 37 D7B (out), 38 D8B (out), 39 D9B (out), 40 D10B (out), 41 D11B (out), 42 DORB (out), 43 OVDD@1 (power), 44 DAV (out), 47 D0A (out), 48 D1A (out), 49 D2A (out), 50 D3A (out), 51 D4A (out), 52 D5A (out), 53 D6A (out), 54 D7A (out), 55 D8A (out), 56 D9A (out), 57 D10A (out), 58 D11A (out), 59 DORA (out), 60 OVDD@2 (power), 61 VDD@4 (power), 62 VDD@5 (power), 63 VDD@6 (power), 64 G/!T, 65 PD, 66 SHREF, 67 REFOUT (out), 68 REFIN, TH THPAD

## MF10BN
designator IC?, comment FILTER
OC_FARNELL: unknown; OC_NEWARK: unknown
footprint DIL20
pins: 1 LPA (out), 2 BPA (out), 3 N/AP/HPA (out), 4 INVA, 5 S1A, 6 SA/B, 7 VA+ (power), 8 VD+ (power), 9 LSH, 10 CLK-A, 11 CLK-B, 12 50/100/C, 13 VD- (power), 14 VA- (power), 15 AGND (power), 16 S1B, 17 INVB, 18 N/AP/HPB (out), 19 BPB (out), 20 LPB (out)

## MM74C945
designator IC?, comment COUNTER
OC_FARNELL: unknown; OC_NEWARK: unknown
footprint DIL40
part A pins: 2 E1 (out), 3 G1 (out), 4 F1 (out), 5 BP, 6 A2 (out), 7 B2 (out), 8 C2 (out), 9 D2 (out), 10 E2 (out), 11 G2 (out), 12 F2 (out), 13 A3 (out), 14 B3 (out), 15 C3 (out), 16 D3 (out), 17 E3 (out), 18 G3 (out), 19 F3 (out), 20 A4 (out), 21 B4 (out), 22 C4 (out), 23 D4 (out), 24 E4 (out), 25 G4 (out), 26 F4 (out), 27 UP/DOWN, 28 CARRY (out), 29 LZB-IN, 30 LZB-OUT (out), 31 ENABLE, 32 CLK, 33 RESET, 34 STORE, 36 OSC, 37 A1 (out), 38 B1 (out), 39 C1 (out), 40 D1 (out)
part B pins: 1 VCC (power), 35 GND (power)

## MX565AJN
designator IC?, comment DIGITAL/ANALOG CONVERTER
OC_FARNELL: unknown; OC_NEWARK: unknown
footprint DIL24-6
pins: 1 NC, 2 NC@1, 3 VCC (power), 4 REF-OUT (out), 5 REF-GND (power), 6 REF-IN, 7 VEE (power), 8 BIOFF-IN, 9 DAC-OUT (out), 10 10V-SPAN, 11 20V-SPAN, 12 GND (power), 13 BIT12, 14 BIT11, 15 BIT10, 16 BIT9, 17 BIT8, 18 BIT7, 19 BIT6, 20 BIT5, 21 BIT4, 22 BIT3, 23 BIT2, 24 BIT1

## MX580JCSA
designator IC?, comment VOLTAGE REFERENCE
OC_FARNELL: unknown; OC_NEWARK: unknown
footprint SO08
pins: 1 +2,5V (out), 2 NC, 3 NC@1, 4 GND (power), 5 NC@2, 6 NC@3, 7 NC@4, 8 +VS

## MX580KH
designator IC?, comment VOLTAGE REFERENCE
OC_FARNELL: unknown; OC_NEWARK: unknown
footprint TO52A
pins: 1 +VS (power), 2 VOUT (out), 3 GND (power)

## MX584JN
designator IC?, comment VOLTAGE REFERENCE
OC_FARNELL: unknown; OC_NEWARK: unknown
footprint DIL08
pins: 1 10,0V (out), 2 5,0V (out), 3 2,5V (out), 4 COMMON (power), 5 STROBE, 6 VBG, 7 CAP, 8 +VS (power)

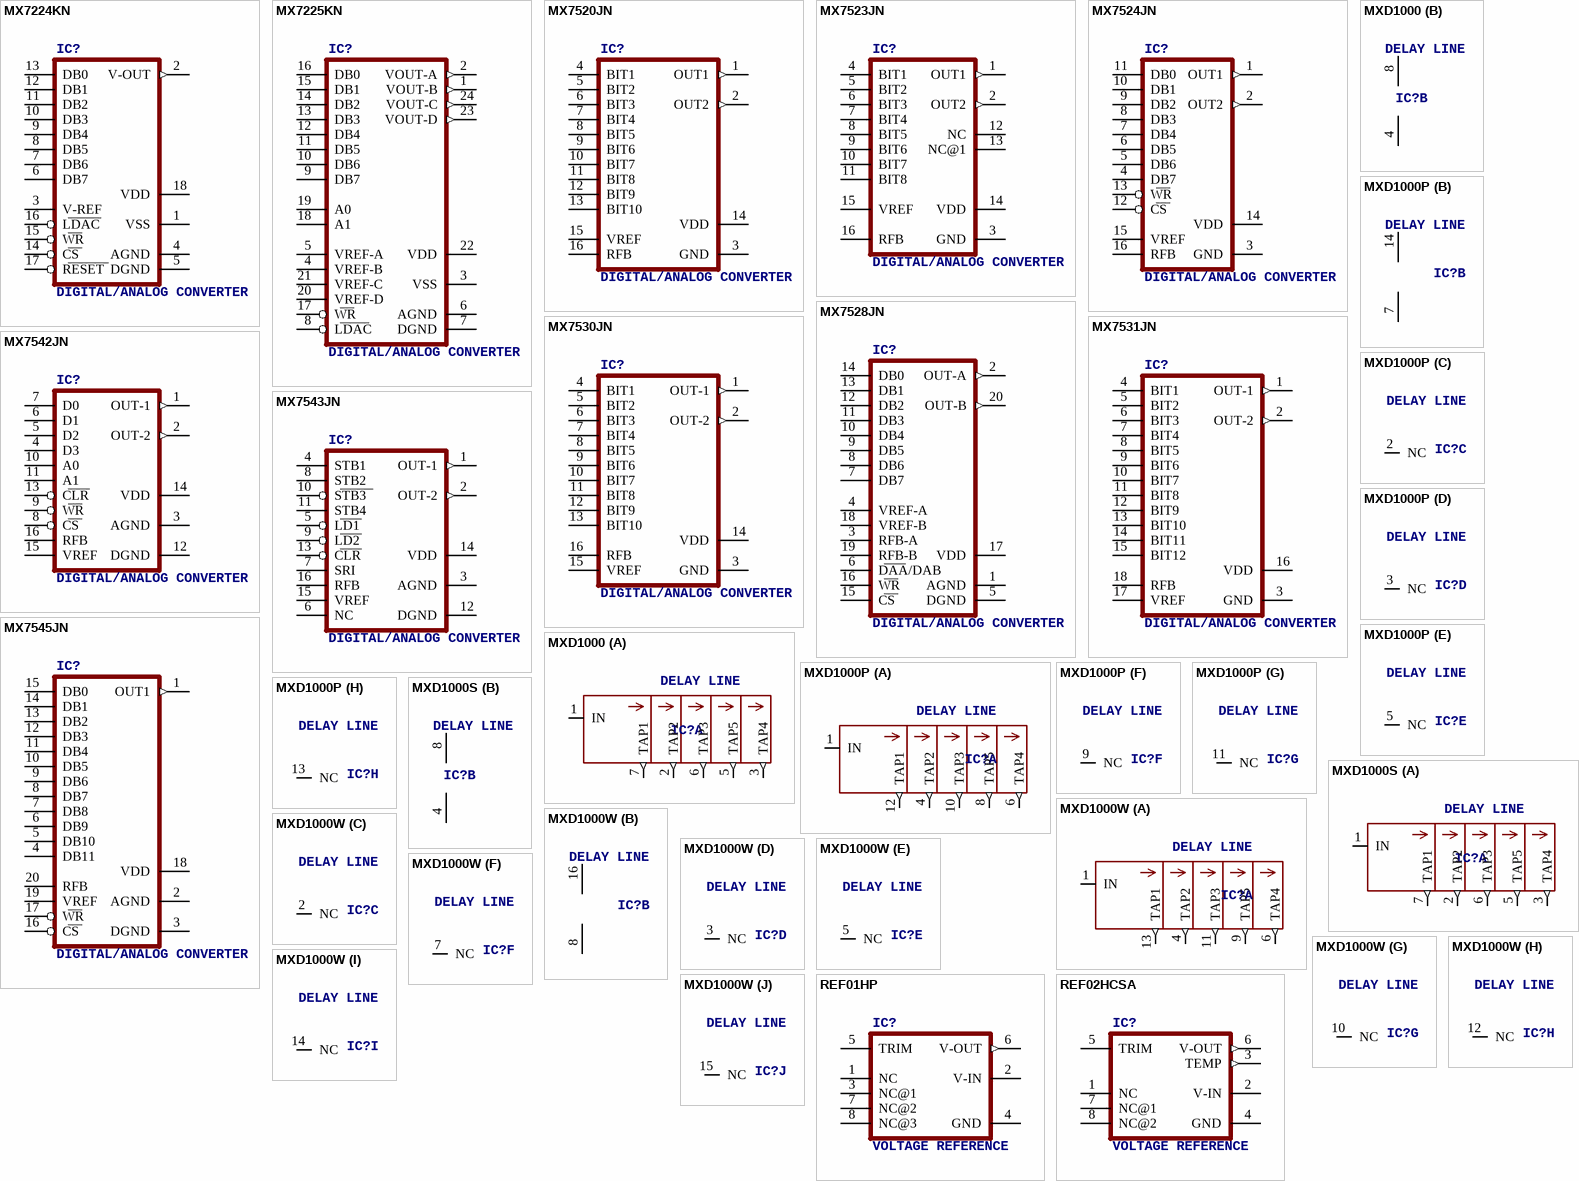
[diagram p30: symbols MX7224KN to REF02HCSA]

## MX7224KN
designator IC?, comment DIGITAL/ANALOG CONVERTER
MPN: MX7224KN; OC_FARNELL: unknown; OC_NEWARK: 91C3202
footprint DIL18
pins: 1 VSS (power), 2 V-OUT (out), 3 V-REF, 4 AGND (power), 5 DGND (power), 6 DB7, 7 DB6, 8 DB5, 9 DB4, 10 DB3, 11 DB2, 12 DB1, 13 DB0, 14 CS, 15 WR, 16 LDAC, 17 RESET, 18 VDD (power)

## MX7225KN
designator IC?, comment DIGITAL/ANALOG CONVERTER
MPN: MX7225KN+; OC_FARNELL: unknown; OC_NEWARK: 67K7165
footprint DIL24-6
pins: 1 VOUT-B (out), 2 VOUT-A (out), 3 VSS (power), 4 VREF-B, 5 VREF-A, 6 AGND (power), 7 DGND (power), 8 LDAC, 9 DB7, 10 DB6, 11 DB5, 12 DB4, 13 DB3, 14 DB2, 15 DB1, 16 DB0, 17 WR, 18 A1, 19 A0, 20 VREF-D, 21 VREF-C, 22 VDD (power), 23 VOUT-D (out), 24 VOUT-C (out)

## MX7520JN
designator IC?, comment DIGITAL/ANALOG CONVERTER
MPN: MX7520JN+; OC_FARNELL: unknown; OC_NEWARK: 99K3894
footprint DIL16
pins: 1 OUT1 (out), 2 OUT2 (out), 3 GND (power), 4 BIT1, 5 BIT2, 6 BIT3, 7 BIT4, 8 BIT5, 9 BIT6, 10 BIT7, 11 BIT8, 12 BIT9, 13 BIT10, 14 VDD (power), 15 VREF, 16 RFB

## MX7523JN
designator IC?, comment DIGITAL/ANALOG CONVERTER
MPN: MX7523JN+; OC_FARNELL: unknown; OC_NEWARK: 99K3900
footprint DIL16
pins: 1 OUT1 (out), 2 OUT2 (out), 3 GND (power), 4 BIT1, 5 BIT2, 6 BIT3, 7 BIT4, 8 BIT5, 9 BIT6, 10 BIT7, 11 BIT8, 12 NC, 13 NC@1, 14 VDD (power), 15 VREF, 16 RFB

## MX7524JN
designator IC?, comment DIGITAL/ANALOG CONVERTER
MPN: MX7524JN; OC_FARNELL: unknown; OC_NEWARK: 91C3294
footprint DIL16
pins: 1 OUT1 (out), 2 OUT2 (out), 3 GND (power), 4 DB7, 5 DB6, 6 DB5, 7 DB4, 8 DB3, 9 DB2, 10 DB1, 11 DB0, 12 CS, 13 WR, 14 VDD (power), 15 VREF, 16 RFB

## MX7528JN
designator IC?, comment DIGITAL/ANALOG CONVERTER
MPN: MX7528JN; OC_FARNELL: 1187979; OC_NEWARK: 34C4061
footprint DIL20
pins: 1 AGND (power), 2 OUT-A (out), 3 RFB-A, 4 VREF-A, 5 DGND (power), 6 DAA/DAB, 7 DB7, 8 DB6, 9 DB5, 10 DB4, 11 DB3, 12 DB2, 13 DB1, 14 DB0, 15 CS, 16 WR, 17 VDD (power), 18 VREF-B, 19 RFB-B, 20 OUT-B (out)

## MX7530JN
designator IC?, comment DIGITAL/ANALOG CONVERTER
MPN: MX7530JN+; OC_FARNELL: unknown; OC_NEWARK: 99K3933
footprint DIL16
pins: 1 OUT-1 (out), 2 OUT-2 (out), 3 GND (power), 4 BIT1, 5 BIT2, 6 BIT3, 7 BIT4, 8 BIT5, 9 BIT6, 10 BIT7, 11 BIT8, 12 BIT9, 13 BIT10, 14 VDD (power), 15 VREF, 16 RFB

## MX7531JN
designator IC?, comment DIGITAL/ANALOG CONVERTER
OC_FARNELL: unknown; OC_NEWARK: unknown
footprint DIL18
pins: 1 OUT-1 (out), 2 OUT-2 (out), 3 GND (power), 4 BIT1, 5 BIT2, 6 BIT3, 7 BIT4, 8 BIT5, 9 BIT6, 10 BIT7, 11 BIT8, 12 BIT9, 13 BIT10, 14 BIT11, 15 BIT12, 16 VDD (power), 17 VREF, 18 RFB

## MX7542JN
designator IC?, comment DIGITAL/ANALOG CONVERTER
MPN: MX7542JN; OC_FARNELL: unknown; OC_NEWARK: 91C3501
footprint DIL16
pins: 1 OUT-1 (out), 2 OUT-2 (out), 3 AGND (power), 4 D3, 5 D2, 6 D1, 7 D0, 8 CS, 9 WR, 10 A0, 11 A1, 12 DGND, 13 CLR, 14 VDD (power), 15 VREF, 16 RFB

## MX7543JN
designator IC?, comment DIGITAL/ANALOG CONVERTER
MPN: MX7543JN; MF: MAXIM; OC_FARNELL: 1187981; OC_NEWARK: 91C3519
footprint DIL16
pins: 1 OUT-1 (out), 2 OUT-2 (out), 3 AGND (power), 4 STB1, 5 LD1, 6 NC, 7 SRI, 8 STB2, 9 LD2, 10 STB3, 11 STB4, 12 DGND (power), 13 CLR, 14 VDD (power), 15 VREF, 16 RFB

## MX7545JN
designator IC?, comment DIGITAL/ANALOG CONVERTER
MPN: MX7545JN+; OC_FARNELL: unknown; OC_NEWARK: 61K1015
footprint DIL20
pins: 1 OUT1 (out), 2 AGND (power), 3 DGND (power), 4 DB11, 5 DB10, 6 DB9, 7 DB8, 8 DB7, 9 DB6, 10 DB5, 11 DB4, 12 DB3, 13 DB2, 14 DB1, 15 DB0, 16 CS, 17 WR, 18 VDD (power), 19 VREF, 20 RFB

## MXD1000
designator IC?, comment DELAY LINE
OC_FARNELL: unknown; OC_NEWARK: unknown
footprint DIL08
part A pins: 1 IN, 2 TAP2 (out), 3 TAP4 (out), 5 TAP5 (out), 6 TAP3 (out), 7 TAP1 (out)
part B pins: 4 GND (power), 8 VCC (power)

## MXD1000P
designator IC?, comment DELAY LINE
OC_FARNELL: unknown; OC_NEWARK: unknown
footprint DIL14
part A pins: 1 IN, 4 TAP2 (out), 6 TAP4 (out), 8 TAP5 (out), 10 TAP3 (out), 12 TAP1 (out)
part B pins: 7 GND (power), 14 VCC (power)
part C pins: 2 NC
part D pins: 3 NC
part E pins: 5 NC
part F pins: 9 NC
part G pins: 11 NC
part H pins: 13 NC

## MXD1000S
designator IC?, comment DELAY LINE
OC_FARNELL: unknown; OC_NEWARK: unknown
footprint SO08
part A pins: 1 IN, 2 TAP2 (out), 3 TAP4 (out), 5 TAP5 (out), 6 TAP3 (out), 7 TAP1 (out)
part B pins: 4 GND (power), 8 VCC (power)

## MXD1000W
designator IC?, comment DELAY LINE
OC_FARNELL: unknown; OC_NEWARK: unknown
footprint SO16L
part A pins: 1 IN, 4 TAP2 (out), 6 TAP4 (out), 9 TAP5 (out), 11 TAP3 (out), 13 TAP1 (out)
part B pins: 8 GND (power), 16 VCC (power)
part C pins: 2 NC
part D pins: 3 NC
part E pins: 5 NC
part F pins: 7 NC
part G pins: 10 NC
part H pins: 12 NC
part I pins: 14 NC
part J pins: 15 NC

## REF01HP
designator IC?, comment VOLTAGE REFERENCE
MPN: REF01HP; MF: ALTERA CORPORATION; OC_FARNELL: 9605150; OC_NEWARK: 05F8981
footprint DIL08
pins: 1 NC, 2 V-IN (power), 3 NC@1, 4 GND (power), 5 TRIM, 6 V-OUT (out), 7 NC@2, 8 NC@3

## REF02HCSA
designator IC?, comment VOLTAGE REFERENCE
OC_FARNELL: unknown; OC_NEWARK: unknown
footprint SO08
pins: 1 NC, 2 V-IN (power), 3 TEMP (out), 4 GND (power), 5 TRIM, 6 V-OUT (out), 7 NC@1, 8 NC@2